# EAGLE library part TC2050 (library FlashPCB_Misc)
TC2050 - Bed of Nails 10 pins Technical Specifications: Accessory Type: Adapter Cable
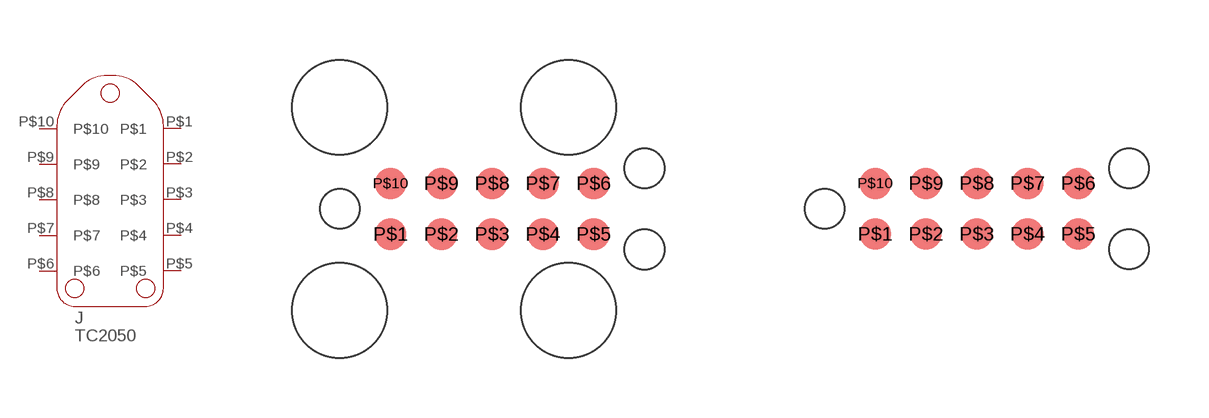
[diagram p1: symbol with the pads of TC2050-IDC; footprints TC2050-IDC, TC2050-IDC-NL]

Designator prefix J

## TC2050WITH_LEGS  [TC2050-IDC]
P$1  P$1
P$2  P$2
P$3  P$3
P$4  P$4
P$5  P$5
P$6  P$6
P$7  P$7
P$8  P$8
P$9  P$9
P$10  P$10

## TC2050NO_LEGS  [TC2050-IDC-NL]
Pads as for TC2050-IDC

## Footprint TC2050-IDC (pad centres in mm)
This is board feature and there is no component for this Package
smd 0.787 x 0.787: P$1 -2.54,-0.635; P$2 -1.27,-0.635; P$3 0,-0.635; P$4 1.27,-0.635; P$5 2.54,-0.635; P$6 2.54,0.635; P$7 1.27,0.635; P$8 0,0.635; P$9 -1.27,0.635; P$10 -2.54,0.635
hole 0.991 at -3.81,0
hole 0.991 at 3.81,1.016
hole 0.991 at 3.81,-1.016
hole 2.375 at -3.81,2.54
hole 2.375 at -3.81,-2.54
hole 2.375 at 1.905,-2.54
hole 2.375 at 1.905,2.54

## Footprint TC2050-IDC-NL (pad centres in mm)
This is board feature and there is no component for this Package
smd 0.787 x 0.787: P$1 -2.54,-0.635; P$2 -1.27,-0.635; P$3 0,-0.635; P$4 1.27,-0.635; P$5 2.54,-0.635; P$6 2.54,0.635; P$7 1.27,0.635; P$8 0,0.635; P$9 -1.27,0.635; P$10 -2.54,0.635
hole 0.991 at -3.81,0
hole 0.991 at 3.81,1.016
hole 0.991 at 3.81,-1.016